# Altium schematic symbol library cap.SchLib: 1 symbol
Pins are listed as number, name and electrical type; pins without a type are passive.

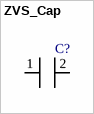
[diagram p0: symbol ZVS_Cap]

## ZVS_Cap
designator C?
footprint PCBComponent_1
pins: 1, 2